# EAGLE library part NRF24 (library lib)
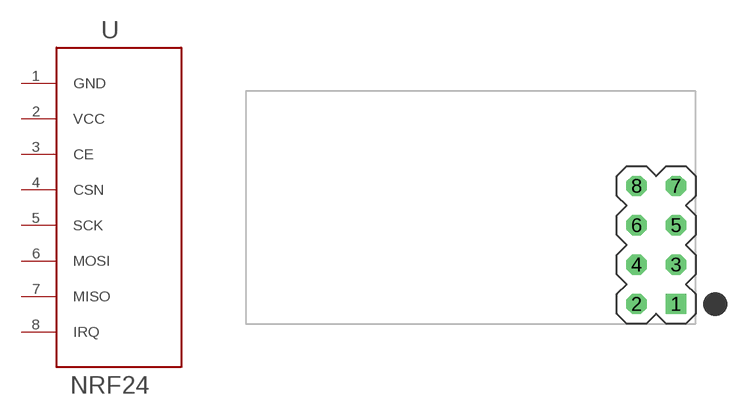
[diagram p0: symbol with the pads of NRF_24_8PIN; footprint NRF_24_8PIN]

Designator prefix -

## NRF24  [NRF_24_8PIN]
1  GND
2  VCC
3  CE
4  CSN
5  SCK
6  MOSI
7  MISO
8  IRQ

## Footprint NRF_24_8PIN (pad centres in mm)
drill 0.8 square: 1 1.27,-3.81
drill 0.8 octagon: 2 -1.27,-3.81; 3 1.27,-1.27; 4 -1.27,-1.27; 5 1.27,1.27; 6 -1.27,1.27; 7 1.27,3.81; 8 -1.27,3.81